# Altium schematic symbol library led.SchLib: 2 symbols
Pins are listed as number, name and electrical type; pins without a type are passive.

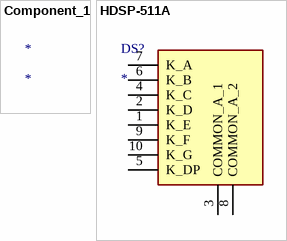
[diagram p0: symbols Component_1 to HDSP-511A]

## Component_1
designator *

## HDSP-511A
designator DS?
Display; Manufacturer_Name: Avago Technologies; Manufacturer_Part_Number: HDSP-511A; Datasheet Link: https://datasheet.datasheetarchive.com/originals/distributors/SFDatasheet-4/sf-00083626.pdf; Height: 8mm; Mouser2 Part Number: 630-HDSP-511A; Mouser2 Price/Stock: https://www.mouser.com/Search/Refine.aspx?Keyword=630-HDSP-511A
footprint HDSP511A
pins: 1 K_E, 2 K_D, 3 COMMON_A_1, 4 K_C, 5 K_DP, 6 K_B, 7 K_A, 8 COMMON_A_2, 9 K_F, 10 K_G